# Altium footprint library BB.001.00.00.PcbLib: 87 footprints (part 3 of 6)
Each footprint in its own frame and in the unit in brackets; x right, y up, seen from the top. Pads: shape width x height; smd on the part's side, far side on the other; paste and mask are expansions set on the pad; w line width, h text height; cw(c..) or ccw(c..) is an arc to the next point about the centre after c.
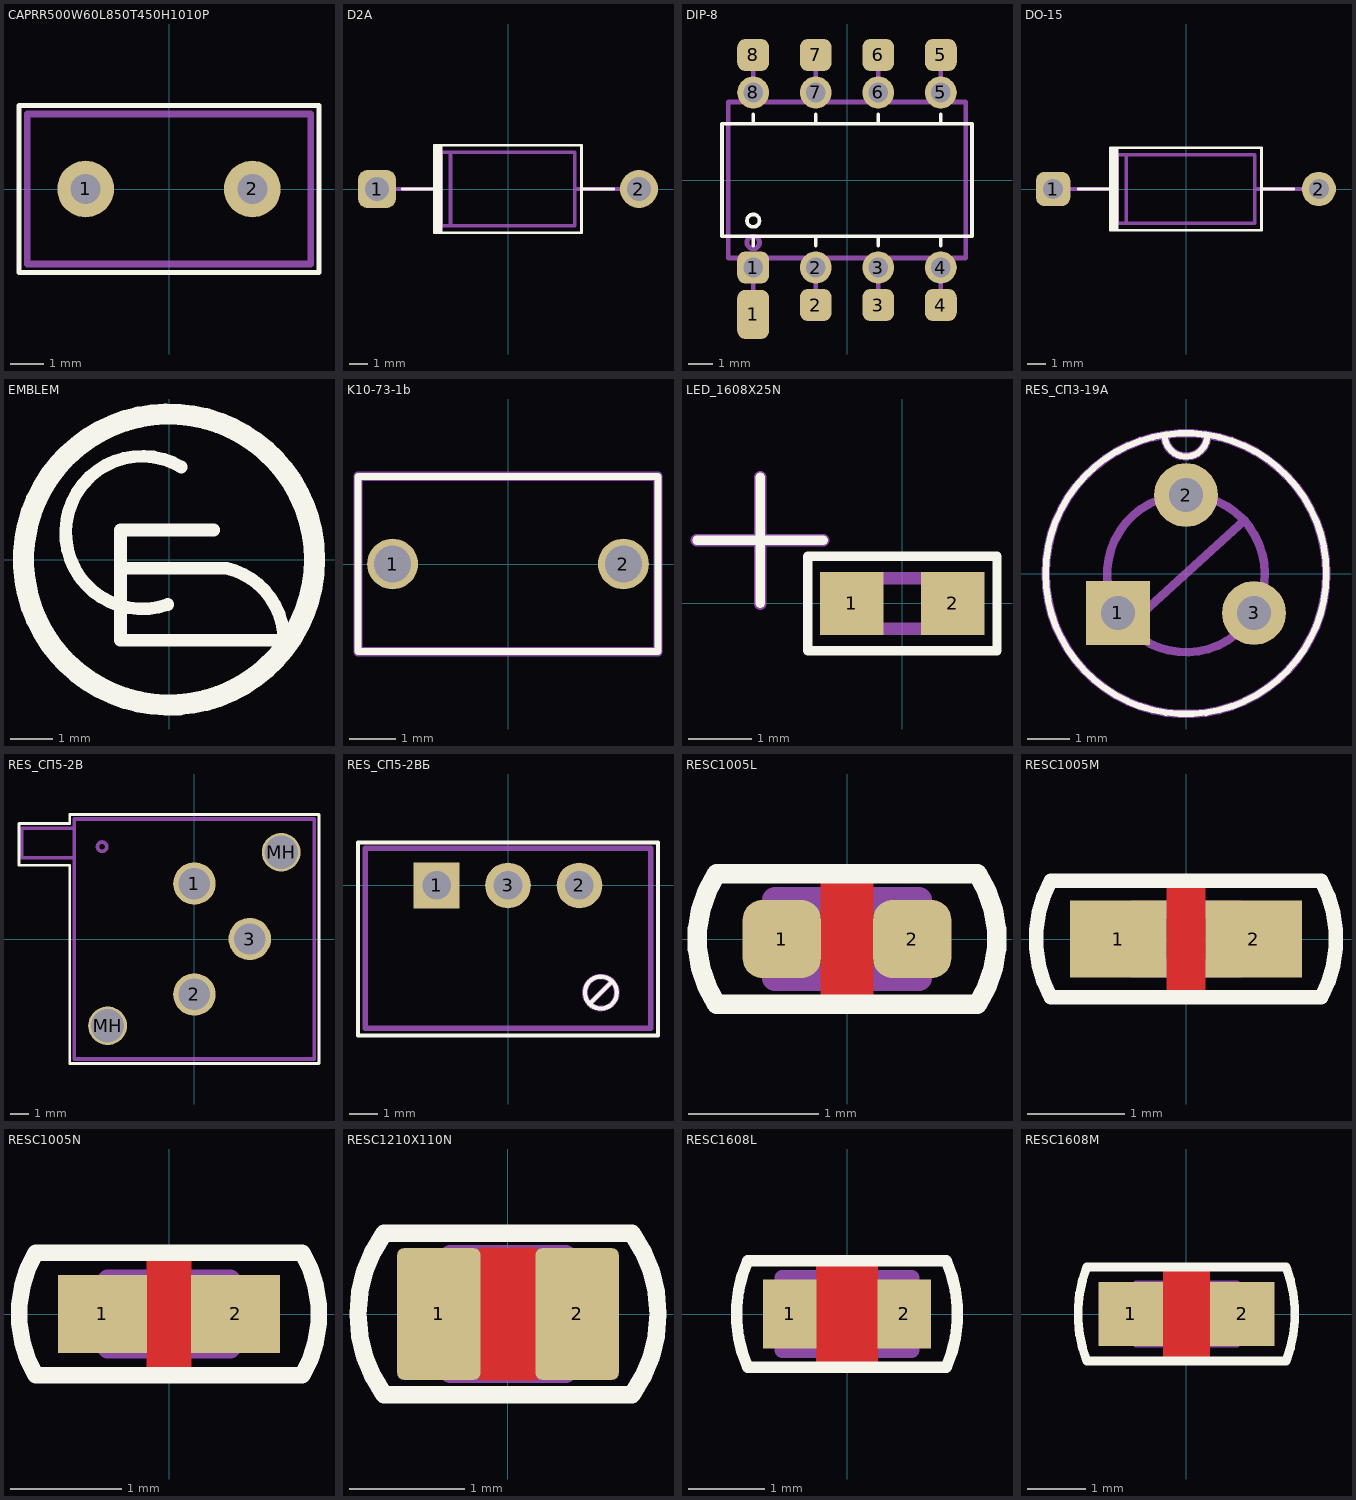
[diagram p2: the footprints below, top view; thin cyan lines are the x and y axes]

## CAPRR500W60L850T450H1010P [mm] "Capasitor; 2-Leads; body: 8,50Х4,50mm"
height 10.1
pads (2):
  round 1.7 hole 0.9 paste+0: 1(-2.5,0) 2(2.5,0)
Top Overlay:
  lines w0.15: -4.5,-2.5 4.5,-2.5 4.5,2.5 -4.5,2.5 -4.5,-2.5
TopAsy:
  lines w0.2: -4.25,-2.25 4.25,-2.25 4.25,2.25 -4.25,2.25 -4.25,-2.25
3D body "Конденсатор K10-69б-Н30-25В-1,5мкФ.stp": height 12.1, standoff -3, extent -4.25,-2.2 4.25,2.3

## D2A [mm]
height 6.1
pads (2):
  rrect50% 2.1x2.1 hole 1.3: 1(-7.239,0)
  round 2.1 hole 1.3: 2(7.239,0)
Top Overlay:
  rectangle: -4.064,-2.413 -3.683,2.413
  lines w0.15: -5.842,0 -4.064,0 ; -3.683,-2.413 -3.683,2.413 ; 4.064,0 5.842,0 ; -4.064,-2.413 4.064,-2.413 4.064,2.413 -4.064,2.413 -4.064,-2.413
TopAsy:
  lines w0.2: -7.239,0 -3.683,0 ; -3.175,-2.032 -3.175,2.032 ; 3.683,0 7.239,0 ; -3.683,-2.032 3.683,-2.032 3.683,2.032 -3.683,2.032 -3.683,-2.032

## DIP-8 [mm]
height 4.7
pads (16):
  rrect50% 1.3x2 all layers, no hole: 1(-3.81,-5.461)
  rrect50% 1.3x1.3 / inner rrect50% 1.3x1.3 / far side rrect50% 1.6x1.6 hole 0.8: 1(-3.81,-3.556)
  rrect50% 1.3x1.3 all layers, no hole: 2(-1.27,-5.08) 3(1.27,-5.08) 4(3.81,-5.08) 5(3.81,5.08) 6(1.27,5.08) 7(-1.27,5.08) 8(-3.81,5.08)
  round 1.3 / inner round 1.3 / far side round 1.6 hole 0.8: 2(-1.27,-3.556) 3(1.27,-3.556) 4(3.81,-3.556) 5(3.81,3.556) 6(1.27,3.556) 7(-1.27,3.556) 8(-3.81,3.556)
Top Overlay:
  circle w0.15: c-3.81,-1.651 r0.254
  lines w0.15: -3.81,-2.667 -3.81,-2.286 ; -3.81,2.286 -3.81,2.667 ; -1.27,-2.667 -1.27,-2.286 ; -1.27,2.286 -1.27,2.667 ; 1.27,-2.667 1.27,-2.286 ; 1.27,2.286 1.27,2.667 ; 3.81,-2.667 3.81,-2.286 ; 3.81,2.286 3.81,2.667 ; -5.08,-2.286 -5.08,2.286 5.08,2.286 5.08,-2.286 -5.08,-2.286
TopAsy:
  circle w0.2: c-3.81,-2.54 r0.254
  lines w0.2: -3.81,-4.826 -3.81,-3.175 ; -3.81,3.175 -3.81,4.826 ; -1.27,-4.826 -1.27,-3.175 ; -1.27,3.175 -1.27,4.826 ; 1.27,-4.826 1.27,-3.175 ; 1.27,3.175 1.27,4.826 ; 3.81,-4.826 3.81,-3.175 ; 3.81,3.175 3.81,4.826 ; -4.826,-3.175 4.826,-3.175 4.826,3.175 -4.826,3.175 -4.826,-3.175

## DO-15 [mm]
height 5.6
pads (2):
  rrect50% 1.9x1.9 hole 1.1: 1(-7.366,0)
  round 1.9 hole 1.1: 2(7.366,0)
Top Overlay:
  rectangle: -4.191,-2.286 -3.81,2.286
  lines w0.15: -5.969,0 -4.191,0 ; -3.81,-2.286 -3.81,2.286 ; 4.191,0 5.969,0 ; -4.191,-2.286 4.191,-2.286 4.191,2.286 -4.191,2.286 -4.191,-2.286
TopAsy:
  lines w0.2: -7.366,0 -3.81,0 ; -3.302,-1.905 -3.302,1.905 ; 3.81,0 7.366,0 ; -3.81,-1.905 3.81,-1.905 3.81,1.905 -3.81,1.905 -3.81,-1.905

## EMBLEM [mm]
Top Overlay:
  circle w0.5: c0,0 r3.429
  lines w0.3: -1.143,-0.205 1.357,-0.205 ; -0.03,-1.06 cw(c-0.635,0.635) 0.291,2.178 ; 1.057,0.695 -1.143,0.695 -1.143,-1.905 2.707,-1.905 ; 1.357,-0.206 cw(c0.966,-1.901) 2.706,-1.904

## K10-73-1b [mm] "Керамический конденсатор"
height 8
pads (2):
  round 1.1 hole 0.8: 1(-2.5,0) 2(2.5,0)
Top Overlay:
  lines w0.15: -3.25,-1.9 3.25,-1.9 3.25,1.9 -3.25,1.9 -3.25,-1.9
TopAsy:
  lines w0.2: -3.25,-1.9 -3.25,1.9 3.25,1.9 3.25,-1.9 -3.25,-1.9
3D body "K10-73.STEP": height 8.01, standoff -4.99, extent -3.25,-1.9 3.25,1.9

## LED_1608X25N [mm] "Chip LED lamp, 2-Leads, Body 1,60x0,80mm, IPC Medium Density"
height 0.25
pads (2):
  rect 1x1 smd: 1(-0.8,0) 2(0.8,0)
Top Overlay:
  lines w0.15: -3.25,1 -1.25,1 ; -2.25,0 -2.25,2 ; -1.5,-0.75 1.5,-0.75 1.5,0.75 -1.5,0.75 -1.5,-0.75
TopAsy:
  lines w0.2: -3.25,1 -1.25,1 ; -2.25,0 -2.25,2 ; -0.8,-0.4 0.8,-0.4 0.8,0.4 -0.8,0.4 -0.8,-0.4
3D body "cled.STEP": height 0.62, standoff 0.02, extent -0.8,-0.4 0.8,0.4

## RES_CП3-19А [mm] "Переменный непроволочный подстроечный резистор d=6.3"
height 4.1
pads (3):
  rect 1.5x1.5 hole 0.8: 1(-1.6,-0.925)
  round 1.5 hole 0.8: 2(0,1.845) 3(1.6,-0.925)
Top Overlay:
  circle w0.15: c0,0 r3.3
  lines w0.15: -0.5,3.25 ccw(c0,3.25) 0.5,3.25
TopAsy:
  circle w0.2: c0,0 r1.85
  circle w0.2: c0,0 r3.3
  lines w0.2: -1.375,-1.25 1.375,1.25 ; -0.5,3.25 ccw(c0,3.25) 0.5,3.25
3D body "СП3-19А.stp": height 4.11, standoff -19.49, extent -3.15,-3.144 3.125,3.144

## RES_СП5-2В [mm] "РЕЗИСТОР ПЕРЕМЕННЫЙПРОВОЛОЧНЫЙ ПОДСТРОЕЧНЫЙ"
height 7.9
pads (5):
  round 2.3 hole 1.7: 1(0,3) 2(0,-3) 3(3,0)
  round 2.1 hole 1.8: MH(-4.7,-4.7) MH(4.7,4.7)
Top Overlay:
  lines w0.15: -9.5,4 -9.5,6.25 -6.75,6.25 -6.75,6.75 6.75,6.75 6.75,-6.75 -6.75,-6.75 -6.75,4 -9.5,4
TopAsy:
  circle w0.2: c-5,5 r0.25
  circle w0.2: c-4.7,-4.7 r0.9
  circle w0.2: c4.7,4.7 r0.9
  lines w0.2: -6.5,4.4 -9.35,4.4 -9.35,6 -6.5,6 ; -6.5,-6.5 6.5,-6.5 6.5,6.5 -6.5,6.5 -6.5,-6.5
3D body "СП5-2В.stp": height 7.91, standoff -4.99, extent -9.35,-6.5 6.5,6.5

## RES_СП5-2ВБ [mm] "РЕЗИСТОР ПЕРЕМЕННЫЙПРОВОЛОЧНЫЙ ПОДСТРОЕЧНЫЙ"
height 12
pads (3):
  rect 1.6x1.6 hole 1: 1(-2.5,0)
  round 1.6 hole 1: 2(2.5,0) 3(0,0)
Top Overlay:
  circle w0.15: c3.25,-3.75 r0.559
  lines w0.15: 2.9,-4.1 3.6,-3.4 ; -5.25,-5.25 -5.25,1.5 5.25,1.5 5.25,-5.25 -5.25,-5.25
TopAsy:
  circle w0.2: c3.25,-3.75 r0.559
  lines w0.2: 2.9,-4.1 3.6,-3.4 ; -5,-5 -5,1.3 5,1.3 5,-5 -5,-5
3D body "СП5-2ВБ.STEP": height 11.41, standoff -3.99, extent -5.003,-5 5.003,1.3

## RESC1005L [mm] "Chip Resistor, Body 1.1x0.5mm, IPC High Density"
height 0.4
pads (2):
  rrect50% 0.6x0.6 smd: 1(-0.5,0) 2(0.5,0)
Top Layer:
  pour cut-out: -0.2,0.5 -0.2,-0.5 0.2,-0.5 0.2,0.5
Top Overlay:
  lines w0.15: -1,-0.5 cw(c-0.242,0) -1,0.5 1,0.5 cw(c0.242,0) 1,-0.5 -1,-0.5
TopAsy:
  lines w0.2: -0.55,-0.3 -0.55,0.3 0.55,0.3 0.55,-0.3 -0.55,-0.3
3D body: height 0.4, standoff 0, extent -0.55,-0.3 0.55,0.3

## RESC1005M [mm] "Chip Resistor, Body 1.1x0.5mm, IPC Low Density"
height 0.4
pads (2):
  rect 1x0.8 smd: 1(-0.7,0) 2(0.7,0)
Top Layer:
  pour cut-out: -0.2,0.6 -0.2,-0.6 0.2,-0.6 0.2,0.6
Top Overlay:
  lines w0.15: -1.4,-0.6 cw(c-0.275,0) -1.4,0.6 1.4,0.6 cw(c0.275,0) 1.4,-0.6 -1.4,-0.6
TopAsy:
  lines w0.2: -0.55,-0.3 0.55,-0.3 0.55,0.3 -0.55,0.3 -0.55,-0.3
3D body: height 0.4, standoff 0, extent -0.55,-0.3 0.55,0.3

## RESC1005N [mm] "Chip Resistor, Body 1.1x0.5mm, IPC Medium Density"
height 0.4
pads (2):
  rect 0.8x0.7 smd: 1(-0.6,0) 2(0.6,0)
Top Layer:
  pour cut-out: -0.2,0.55 -0.2,-0.55 0.2,-0.55 0.2,0.55
Top Overlay:
  lines w0.15: -1.2,-0.55 cw(c-0.267,0) -1.2,0.55 1.2,0.55 cw(c0.267,0) 1.2,-0.55 -1.2,-0.55
TopAsy:
  lines w0.2: -0.55,-0.3 -0.55,0.3 0.55,0.3 0.55,-0.3 -0.55,-0.3
3D body: height 0.4, standoff 0, extent -0.55,-0.3 0.55,0.3

## RESC1210X110N [mm] "SMD, Body: 120x100x110; Резистор высокочастотный неизолированный безвыводной"
height 1.1
pads (2):
  rrect15% 0.72x1.14 smd paste+0: 1(-0.6,0) 2(0.6,0)
Top Layer:
  pour cut-out: -0.25,0.575 0.25,0.575 0.25,-0.575 -0.25,-0.575
Top Overlay:
  lines w0.15: -1.075,-0.7 cw(c-0.099,0) -1.075,0.7 1.075,0.7 cw(c0.099,0) 1.075,-0.7 -1.075,-0.7
TopAsy:
  lines w0.2: -0.5,-0.5 -0.5,0.5 0.5,0.5 0.5,-0.5 -0.5,-0.5
3D body "С6-9.STEP": height 1.51, standoff 0.01, extent -0.5,-0.5 0.5,0.5

## RESC1608L [mm] "Chip Resistor, Body 1.6x0.8mm, IPC High Density"
height 0.6
pads (2):
  rect 0.7x0.9 smd: 1(-0.75,0) 2(0.75,0)
Top Layer:
  pour cut-out: -0.4,0.7 -0.4,-0.7 0.4,-0.7 0.4,0.7
Top Overlay:
  lines w0.15: -1.3,-0.7 cw(c0.258,0) -1.3,0.7 1.3,0.7 cw(c-0.258,0) 1.3,-0.7 -1.3,-0.7
TopAsy:
  lines w0.2: -0.85,-0.475 -0.85,0.475 0.85,0.475 0.85,-0.475 -0.85,-0.475
3D body: height 0.6, standoff 0, extent -0.85,-0.475 0.85,0.475

## RESC1608M [mm] "Chip Resistor, Body 1.6x0.8mm, IPC Low Density"
height 0.6
pads (2):
  rect 1.1x1.1 smd: 1(-0.95,0) 2(0.95,0)
Top Layer:
  pour cut-out: -0.4,0.8 -0.4,-0.8 0.4,-0.8 0.4,0.8
Top Overlay:
  lines w0.15: -1.7,-0.8 cw(c0.35,0) -1.7,0.8 1.7,0.8 cw(c-0.358,0) 1.7,-0.8 -1.7,-0.8
TopAsy:
  lines w0.2: -0.85,-0.475 0.85,-0.475 0.85,0.475 -0.85,0.475 -0.85,-0.475
3D body: height 0.6, standoff 0, extent -0.85,-0.475 0.85,0.475